# Altium schematic symbol library SST26VF064B-104IMF.SchLib: 1 symbol
Pins are listed as number, name and electrical type; pins without a type are passive.

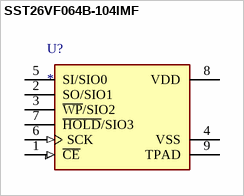
[diagram p0: symbol SST26VF064B-104IMF]

## SST26VF064B-104IMF
designator U?
No Description Available; Mfr_Name: Microchip; RefDes: RefDes; Type: Type
footprint TDFN-S8_MF_MCH
pins: 1 ~{CE} (in) "GND", 2 SO/SIO1 "GND", 3 ~{WP}/SIO2 "GND", 4 VSS (power) "GND", 5 SI/SIO0 "GND", 6 SCK (in) "GND", 7 ~{HOLD}/SIO3 "GND", 8 VDD (power) "GND", 9 TPAD (power) "GND"